# EAGLE library part LTC4442 (library Engs125_lib_NEW_UPDATE_USE_THIS)
LTC4442 (LTC4442-1) Synchronous N-channel Gate Driver Vcc = 6V - 9.5V Vin max = 38V
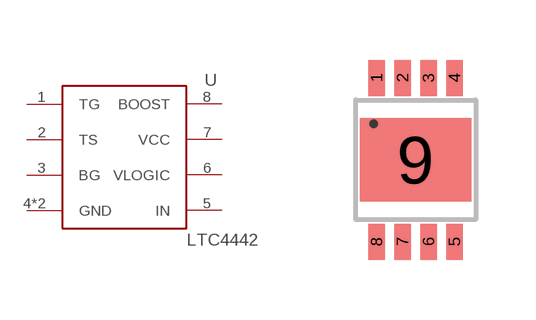
[diagram p1: symbol with the pads of LTC4442; footprint LTC4442]

Designator prefix U

## LTC4442  [LTC4442]
1  TG
2  TS
3  BG
4  GND
5  IN
6  VLOGIC
7  VCC
8  BOOST
9  GND

## Footprint LTC4442 (pad centres in mm)
smd 0.42 x 0.9: 1 -0.975,2.05; 2 -0.325,2.05; 3 0.325,2.05; 4 0.975,2.05; 5 0.975,-2.05; 6 0.325,-2.05; 7 -0.325,-2.05; 8 -0.975,-2.05
smd 2.794 x 2.083: 9 0,0